# EAGLE library part AD623 (library analog-devices)
Instrumentation Amplifier Precision, Rail-to-Rail I/O
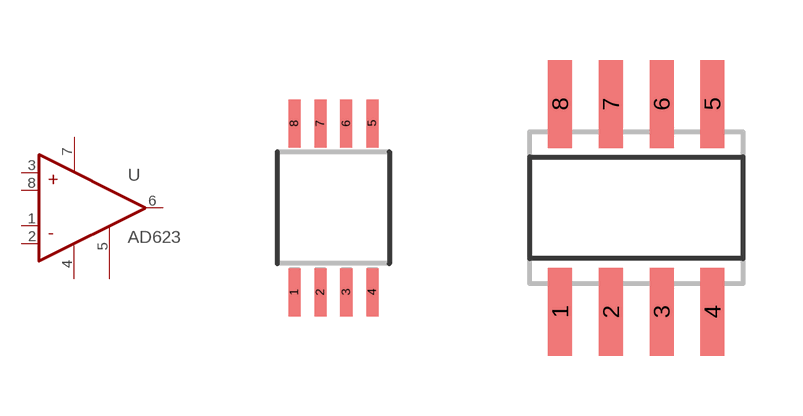
[diagram p24: symbol with the pads of MSOP08; footprints MSOP08, SO08]

Designator prefix U

## AD623ARM (P1I: o)  [MSOP08]
1  RG-  pas
2  -IN  in
3  +IN  in
4  V-  pas
5  REF  pas
6  OUTPUT  out
7  V+  pas
8  RG+  pas

## AD623AR (P1I: o)  [SO08]
Pads as for MSOP08

## AD623AN  [DIL08]
Pads as for MSOP08

## Footprint MSOP08 (pad centres in mm)
Mini Small Outline Package
smd 0.3 x 1.2: 1 -0.975,-2.113; 2 -0.325,-2.113; 3 0.325,-2.113; 4 0.975,-2.113; 5 0.975,2.112; 6 0.324,2.112; 7 -0.325,2.112; 8 -0.975,2.112

## Footprint SO08 (pad centres in mm)
SMALL OUTLINE INTEGRATED CIRCUIT body 3.9 mm/JEDEC MS-012AA
smd 0.6 x 2.2: 1 -1.905,-2.6; 2 -0.635,-2.6; 3 0.635,-2.6; 4 1.905,-2.6; 5 1.905,2.6; 6 0.635,2.6; 7 -0.635,2.6; 8 -1.905,2.6

## Footprint DIL08 (pad centres in mm)
Dual In Line Package
drill 0.813 long: 1 -3.81,-3.81; 2 -1.27,-3.81; 3 1.27,-3.81; 4 3.81,-3.81; 5 3.81,3.81; 6 1.27,3.81; 7 -1.27,3.81; 8 -3.81,3.81